# EAGLE library part TB6612FNG,C,8,EL (library TB6612FNG_C_8_EL)
Stepping Motor Driver Ic Unipolor Copper Wire 8"
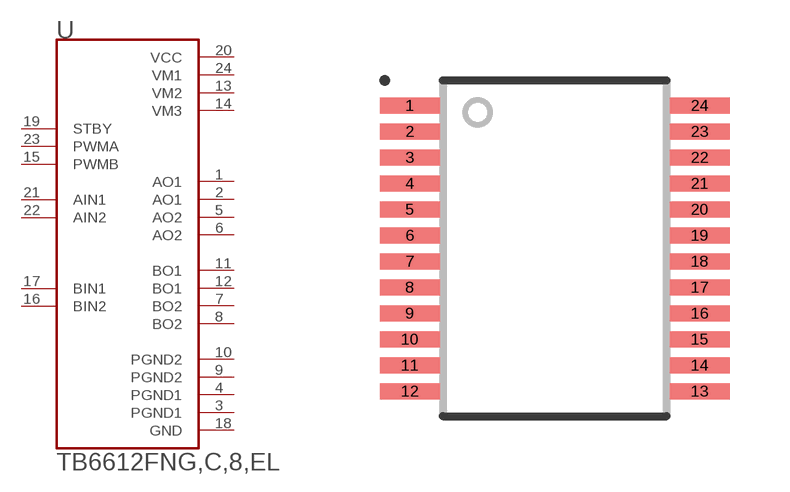
[diagram p0: symbol with the pads of SOP65P760X160-24N; footprint SOP65P760X160-24N]

Designator prefix U

## TB6612FNG,C,8,EL (Description: Stepping Motor Driver Ic Unipolor Copper Wire 8; Digi-Key_Part_Number: TB6612FNGC8ELCT-ND; Digi-Key_Purchase_URL: https://www.digikey.nl/product-detail/en/toshiba-semiconductor-and-storage/TB6612FNG,C,8,EL/TB6612FNGC8ELCT-ND/1730134?WT.z_cid=ref_snapeda&utm_source=snapeda&utm_medium=aggregator&utm_campaign=buynow; MF: Toshiba; MP: TB6612FNG,C,8,EL; Package: SSOP-24 Toshiba)  [SOP65P760X160-24N]
1  AO1  out
2  AO1  out
3  PGND1  pas
4  PGND1  pas
5  AO2  out
6  AO2  out
7  BO2  out
8  BO2  out
9  PGND2  pas
10  PGND2  pas
11  BO1  out
12  BO1  out
13  VM2  pwr
14  VM3  pwr
15  PWMB  in
16  BIN2  in
17  BIN1  in
18  GND  pas
19  STBY  in
20  VCC  pwr
21  AIN1  in
22  AIN2  in
23  PWMA  in
24  VM1  pwr

## Footprint SOP65P760X160-24N (pad centres in mm)
smd 1.5 x 0.4: 1 -3.625,3.575; 2 -3.625,2.925; 3 -3.625,2.275; 4 -3.625,1.625; 5 -3.625,0.975; 6 -3.625,0.325; 7 -3.625,-0.325; 8 -3.625,-0.975; 9 -3.625,-1.625; 10 -3.625,-2.275; 11 -3.625,-2.925; 12 -3.625,-3.575; 13 3.625,-3.575; 14 3.625,-2.925; 15 3.625,-2.275; 16 3.625,-1.625; 17 3.625,-0.975; 18 3.625,-0.325; 19 3.625,0.325; 20 3.625,0.975; 21 3.625,1.625; 22 3.625,2.275; 23 3.625,2.925; 24 3.625,3.575